# Altium schematic symbol library SamacSys.SchLib: 3 symbols
Pins are listed as number, name and electrical type; pins without a type are passive.

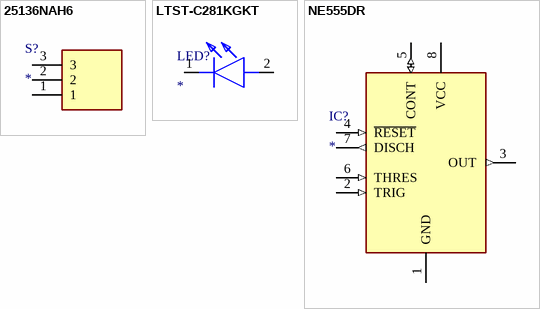
[diagram p0: symbols 25136NAH6 to NE555DR]

## 25136NAH6
designator S?
Switch; Manufacturer_Name: Apem; Manufacturer_Part_Number: 25136NAH6; Datasheet Link: https://componentsearchengine.com/Datasheets/1/25136NAH6.pdf; Height: 8mm; Mouser Part Number: 642-25136NAH6; Mouser Price/Stock: https://www.mouser.co.uk/ProductDetail/Apem/25136NAH6?qs=13SBeMgRQil8VGbOcfWTBA%3D%3D
footprint 25136NAH
pins: 1, 2, 3

## LTST-C281KGKT
designator LED?
LED; Manufacturer_Name: Lite-On; Manufacturer_Part_Number: LTST-C281KGKT; Datasheet Link: https://datasheet.lcsc.com/szlcsc/Lite-On-LTST-C281KGKT_C160479.pdf; Height: 0.35mm; Mouser Part Number: 859-LTST-C281KGKT; Mouser Price/Stock: https://www.mouser.co.uk/ProductDetail/Lite-On/LTST-C281KGKT?qs=xb8aMrBSZRJ6%2FVAKgwiAkw%3D%3D; Arrow Part Number: LTST-C281KGKT; Arrow Price/Stock: https://www.arrow.com/en/products/ltst-c281kgkt/lite-on-technology?region=nac
footprint LEDC1005X35N
pins: 1 K, 2 A

## NE555DR
designator IC?
Integrated Circuit; Manufacturer_Name: Texas Instruments; Manufacturer_Part_Number: NE555DR; Datasheet Link: http://www.ti.com/lit/ds/symlink/ne555.pdf; Height: 1.75mm; Mouser Part Number: 595-NE555DR; Mouser Price/Stock: https://www.mouser.com/Search/Refine.aspx?Keyword=595-NE555DR; RS Part Number: 1218414; RS Price/Stock: http://uk.rs-online.com/web/p/products/1218414
footprint SOIC127P600X175-8N
pins: 1 GND (power), 2 TRIG (in), 3 OUT (out), 4 ~{RESET} (in), 5 CONT (io), 6 THRES (in), 7 DISCH (out), 8 VCC (power)